# Altium schematic symbol library CONN_Shift.SchLib: 1 symbol
Pins are listed as number, name and electrical type; pins without a type are passive.

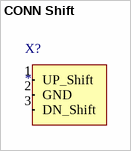
[diagram p0: symbol CONN Shift]

## CONN Shift
designator X?
pins: 1 UP_Shift (in), 2 GND (in), 3 DN_Shift (in)